# Altium schematic symbol library IC-Winbond.SchLib: 1 symbol
Pins are listed as number, name and electrical type; pins without a type are passive.

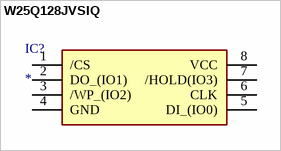
[diagram p0: symbol W25Q128JVSIQ]

## W25Q128JVSIQ
designator IC?
NOR Flash芯片; Manufacturer_Name: Winbond; Manufacturer_Part_Number: W25Q128JVSIQ; LCSC: C97521; Manufacturer_Name_1: *; Manufacturer_Part_Number_1: *
footprint SOIC-8-208MIL (W25Q128JVSIQ)
pins: 1 /CS, 2 DO_(IO1), 3 /WP_(IO2), 4 GND, 5 DI_(IO0), 6 CLK, 7 /HOLD(IO3), 8 VCC